# Altium footprint library XbeeBedPcbLib.PcbLib: 14 footprints
Each footprint in its own frame and in the unit in brackets; x right, y up, seen from the top. Pads: shape width x height; smd on the part's side, far side on the other; paste and mask are expansions set on the pad; w line width, h text height; cw(c..) or ccw(c..) is an arc to the next point about the centre after c.
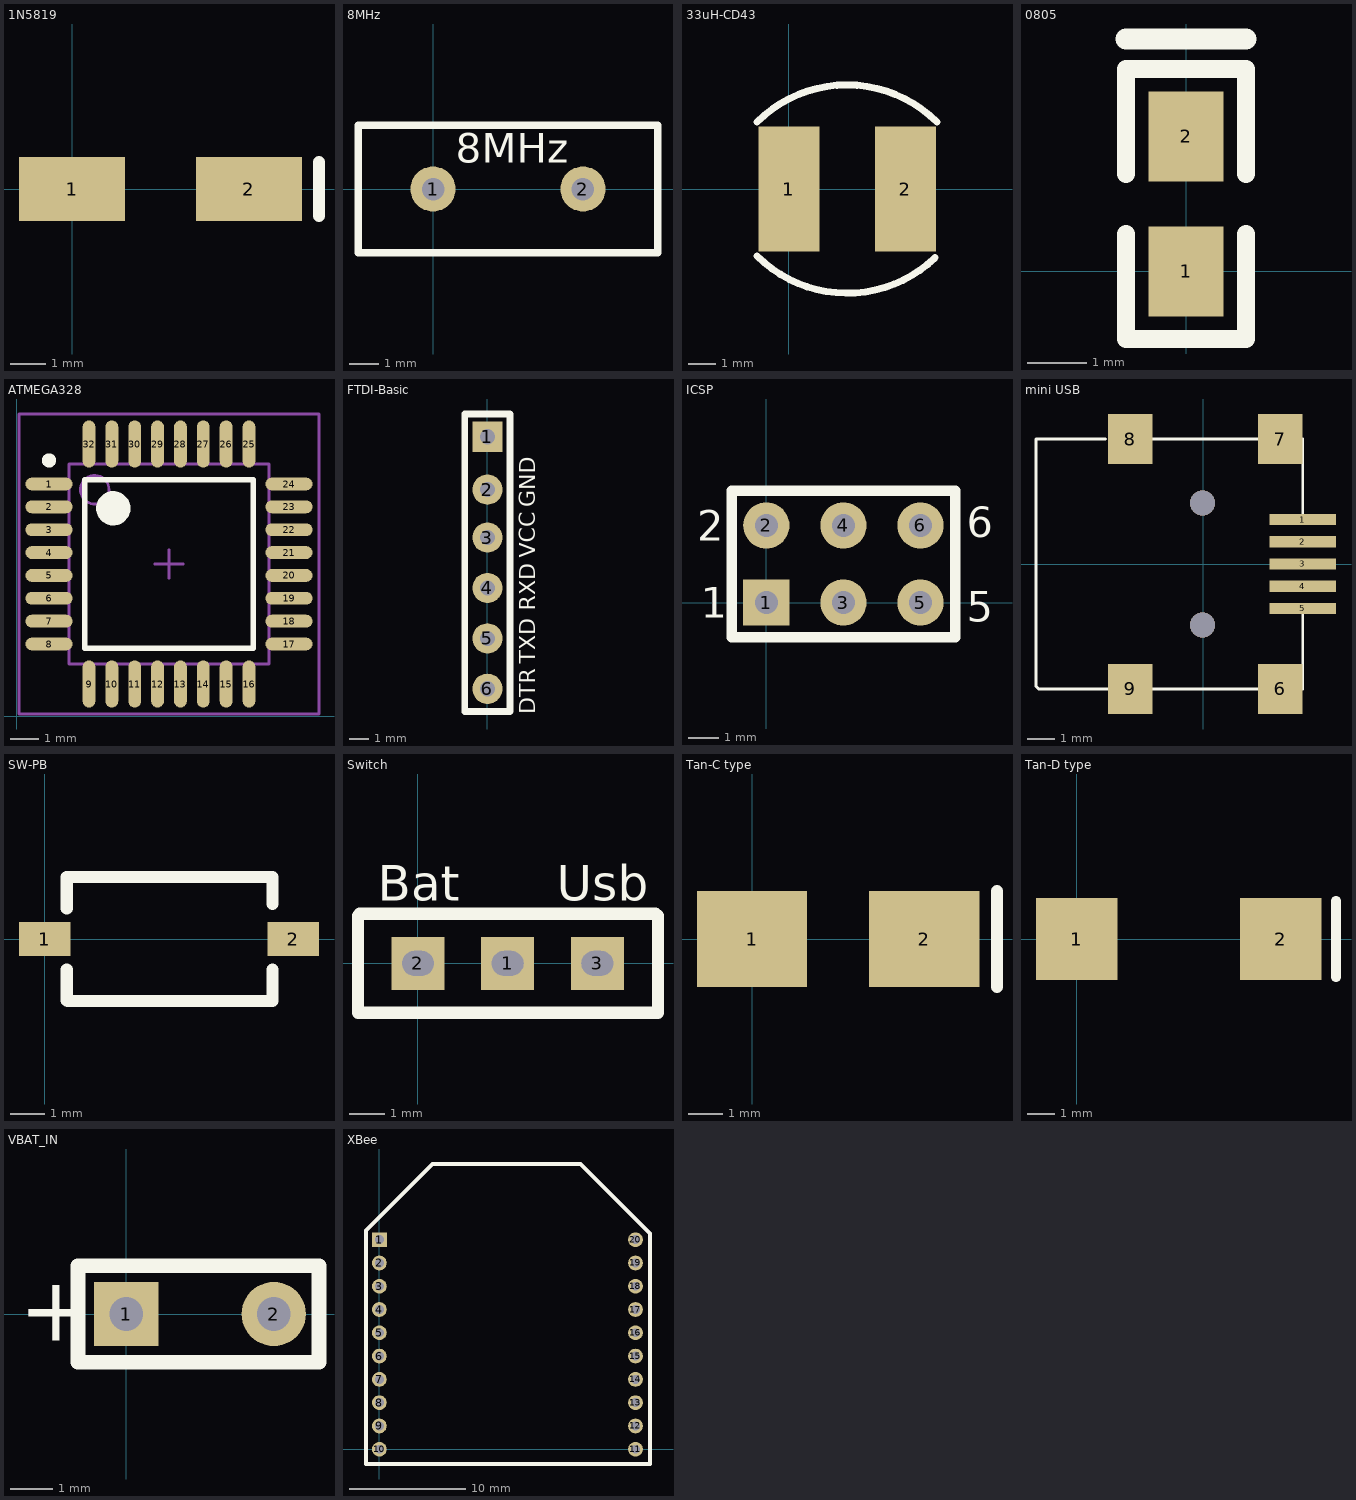
[diagram p0: the footprints below, top view; thin cyan lines are the x and y axes]

## 1N5819 [mm]
pads (2):
  rect 3x1.8 smd: 1(0,0) 2(5,0)
Top Overlay:
  lines w0.35: 6.985,-0.762 6.985,0.762

## 8MHz [mil]
pads (2):
  round 60 hole 30: 1(0,0) 2(200,0)
Top Overlay:
  lines w10: -100,-85 -100,75 -100,85 300,85 300,-85 -100,-85
  text "8MHz" at 30,35 h39.37

## 33uH-CD43 [mm]
pads (2):
  rect 2.2x4.5 smd: 1(0,0) 2(4.2,0)
Top Overlay:
  lines w0.254: -1.143,-2.413 ccw(c2.096,0.826) 5.271,-2.476 ; -1.143,2.413 cw(c2.095,-0.826) 5.334,2.413

## 0805 [mil]
pads (2):
  rect 50x60 smd: 1(0,0) 2(0,90)
Top Overlay:
  lines w12: -40,25 -40,-45 40,-45 40,25 ; -40,65 -40,135 40,135 40,65
  lines w13.78: -40,155 40,155

## ATMEGA328 [mm]
pads (32):
  oval 1.65x0.45 smd: 1(1.134,8.134) 2(1.134,7.334) 3(1.134,6.534) 4(1.134,5.734) 5(1.134,4.934) 6(1.134,4.134) 7(1.134,3.334) 8(1.134,2.534) 17(9.534,2.534) 18(9.534,3.334) 19(9.534,4.134) 20(9.534,4.934) 21(9.534,5.734) 22(9.534,6.534) 23(9.534,7.334) 24(9.534,8.134)
  oval 0.45x1.65 smd: 9(2.534,1.134) 10(3.334,1.134) 11(4.134,1.134) 12(4.934,1.134) 13(5.734,1.134) 14(6.534,1.134) 15(7.334,1.134) 16(8.134,1.134) 25(8.134,9.534) 26(7.334,9.534) 27(6.534,9.534) 28(5.734,9.534) 29(4.934,9.534) 30(4.134,9.534) 31(3.334,9.534) 32(2.534,9.534)
Top Overlay:
  circle w0.6: c3.384,7.284 r0.3
  circle w0.25: c1.134,8.959 r0.125
  lines w0.2: 2.384,2.384 8.284,2.384 8.284,8.284 2.384,8.284 2.384,2.384
Mechanical 13:
  circle w0.1: c2.734,7.934 r0.5
  lines w0.1: 1.834,1.834 8.834,1.834 8.834,8.834 1.834,8.834 1.834,1.834
Mechanical 15:
  lines w0.1: 4.834,5.334 5.834,5.334 ; 5.334,4.834 5.334,5.834 ; 0.084,0.084 10.584,0.084 10.584,10.584 0.084,10.584 0.084,0.084
3D body: height 1.2, standoff 0, extent 1.834,1.834 8.834,8.834

## FTDI-Basic [mil]
pads (6):
  rect 60x60 hole 30: 1(0,-600)
  round 60 hole 30: 2(0,-705) 3(0,-800) 4(0,-900) 5(0,-1000) 6(0,-1100)
Top Overlay:
  lines w13.78: -45,-1145 -45,-555 45,-555 45,-1145 -45,-1145
  text "DTR" at 95,-1150 h31.5
  text "TXD" at 95,-1050 h31.5
  text "RXD" at 95,-945 h31.5
  text "VCC" at 95,-840 h31.5
  text "GND" at 95,-740 h31.5

## ICSP [mil]
pads (6):
  rect 60x60 hole 30: 1(0,0)
  round 60 hole 30: 2(0,100) 3(100,0) 4(100,100) 5(200,0) 6(200,100)
Top Overlay:
  lines w13.78: -45,-45 -45,145 245,145 245,-45 -45,-45
  text "1" at -85,-20 h39.37
  text "2" at -90,80 h39.37
  text "5" at 260,-25 h39.37
  text "6" at 260,85 h39.37

## mini USB [mm]
pads (9):
  rect 2.4x0.4 smd: 1(3.583,1.6) 2(3.583,0.8) 3(3.583,0) 4(3.583,-0.8) 5(3.583,-1.6)
  rect 1.6x1.8 smd: 6(2.783,-4.5) 7(2.783,4.5) 8(-2.617,4.5) 9(-2.617,-4.5)
via -0.017,-2.2 diameter 0.9 hole 0.9
via -0.017,2.2 diameter 0.9 hole 0.9
Top Overlay:
  lines w0.1: -3.517,4.5 -6.017,4.5 -6.017,-4.4 -5.917,-4.5 -3.417,-4.5 ; -1.817,-4.5 1.983,-4.5 ; -1.817,4.5 1.983,4.5 ; 3.583,-4.5 3.583,-1.8 ; 3.583,1.8 3.583,4.5

## SW-PB [mm]
pads (2):
  rect 1.5x1 smd: 1(0,0) 2(7.2,0)
Top Overlay:
  lines w0.35: 0.635,-0.889 0.635,-1.778 0.657,-1.8 6.6,-1.8 ; 0.635,0.889 0.635,1.8 6.6,1.8 ; 6.604,-1.778 6.604,-0.889 ; 6.604,1.016 6.604,1.778

## Switch [mm]
pads (3):
  rect 1.5x1.5 hole 0.7 slot 0.9 at 0 deg: 1(2.54,0) 2(0,0) 3(5.08,0)
Top Overlay:
  lines w0.35: -1.7,-1.4 6.8,-1.4 ; -1.7,-1.397 -1.7,1.35 ; -1.651,1.4 6.731,1.4 ; 6.8,-1.35 6.8,1.35
  text "Usb" at 3.937,1.778 h1
  text "Bat" at -1.143,1.778 h1

## Tan-C type [mm]
pads (2):
  rect 3.2x2.8 smd: 1(0,0) 2(5,0)
Top Overlay:
  lines w0.35: 7.112,-1.397 7.112,1.397

## Tan-D type [mm]
pads (2):
  rect 3x3 smd: 1(0,0) 2(7.5,0)
Top Overlay:
  lines w0.35: 9.525,-1.397 9.525,1.397

## VBAT_IN [mil]
pads (2):
  rect 60x60 hole 31.5: 1(0,0)
  round 60 hole 31.5: 2(137.8,0)
Top Overlay:
  lines w13.78: -45,-45 180,-45 180,45 -45,45 -45,-45
  text "+" at -100,-25 h60

## XBee [mm]
pads (20):
  rect 1.27x1.27 hole 0.76: 1(0,18)
  round 1.27 hole 0.76: 2(0,16) 3(0,14) 4(0,12) 5(0,10) 6(0,8) 7(0,6) 8(0,4) 9(0,2) 10(0,0) 11(22,0) 12(22,2) 13(22,4) 14(22,6) 15(22,8) 16(22,10) 17(22,12) 18(22,14) 19(22,16) 20(22,18)
Top Overlay:
  lines w0.35: -1.143,-1.27 -1.143,18.796 4.561,24.5 17.283,24.5 23.241,18.542 23.241,-1.27 -1.143,-1.27